# Altium schematic symbol library SCH - POWER - SWITCHMODE - TI TPS65170_RHD_28.SchLib: 1 symbol
Pins are listed as number, name and electrical type; pins without a type are passive.

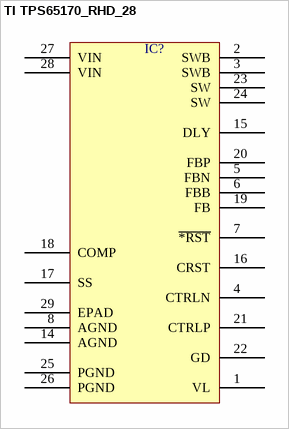
[diagram p0: symbol TI TPS65170_RHD_28]

## TI TPS65170_RHD_28
designator IC?  (value not drawn)
pins: 1 VL, 2 SWB, 3 SWB, 4 CTRLN, 5 FBN, 6 FBB, 7 ~{*RST}, 8 AGND, 14 AGND, 15 DLY, 16 CRST, 17 SS, 18 COMP, 19 FB, 20 FBP, 21 CTRLP, 22 GD, 23 SW, 24 SW, 25 PGND, 26 PGND, 27 VIN, 28 VIN, 29 EPAD